# Altium integrated library Micron Memory Parallel NOR Flash.IntLib: 720 symbols (part 211 of 216)
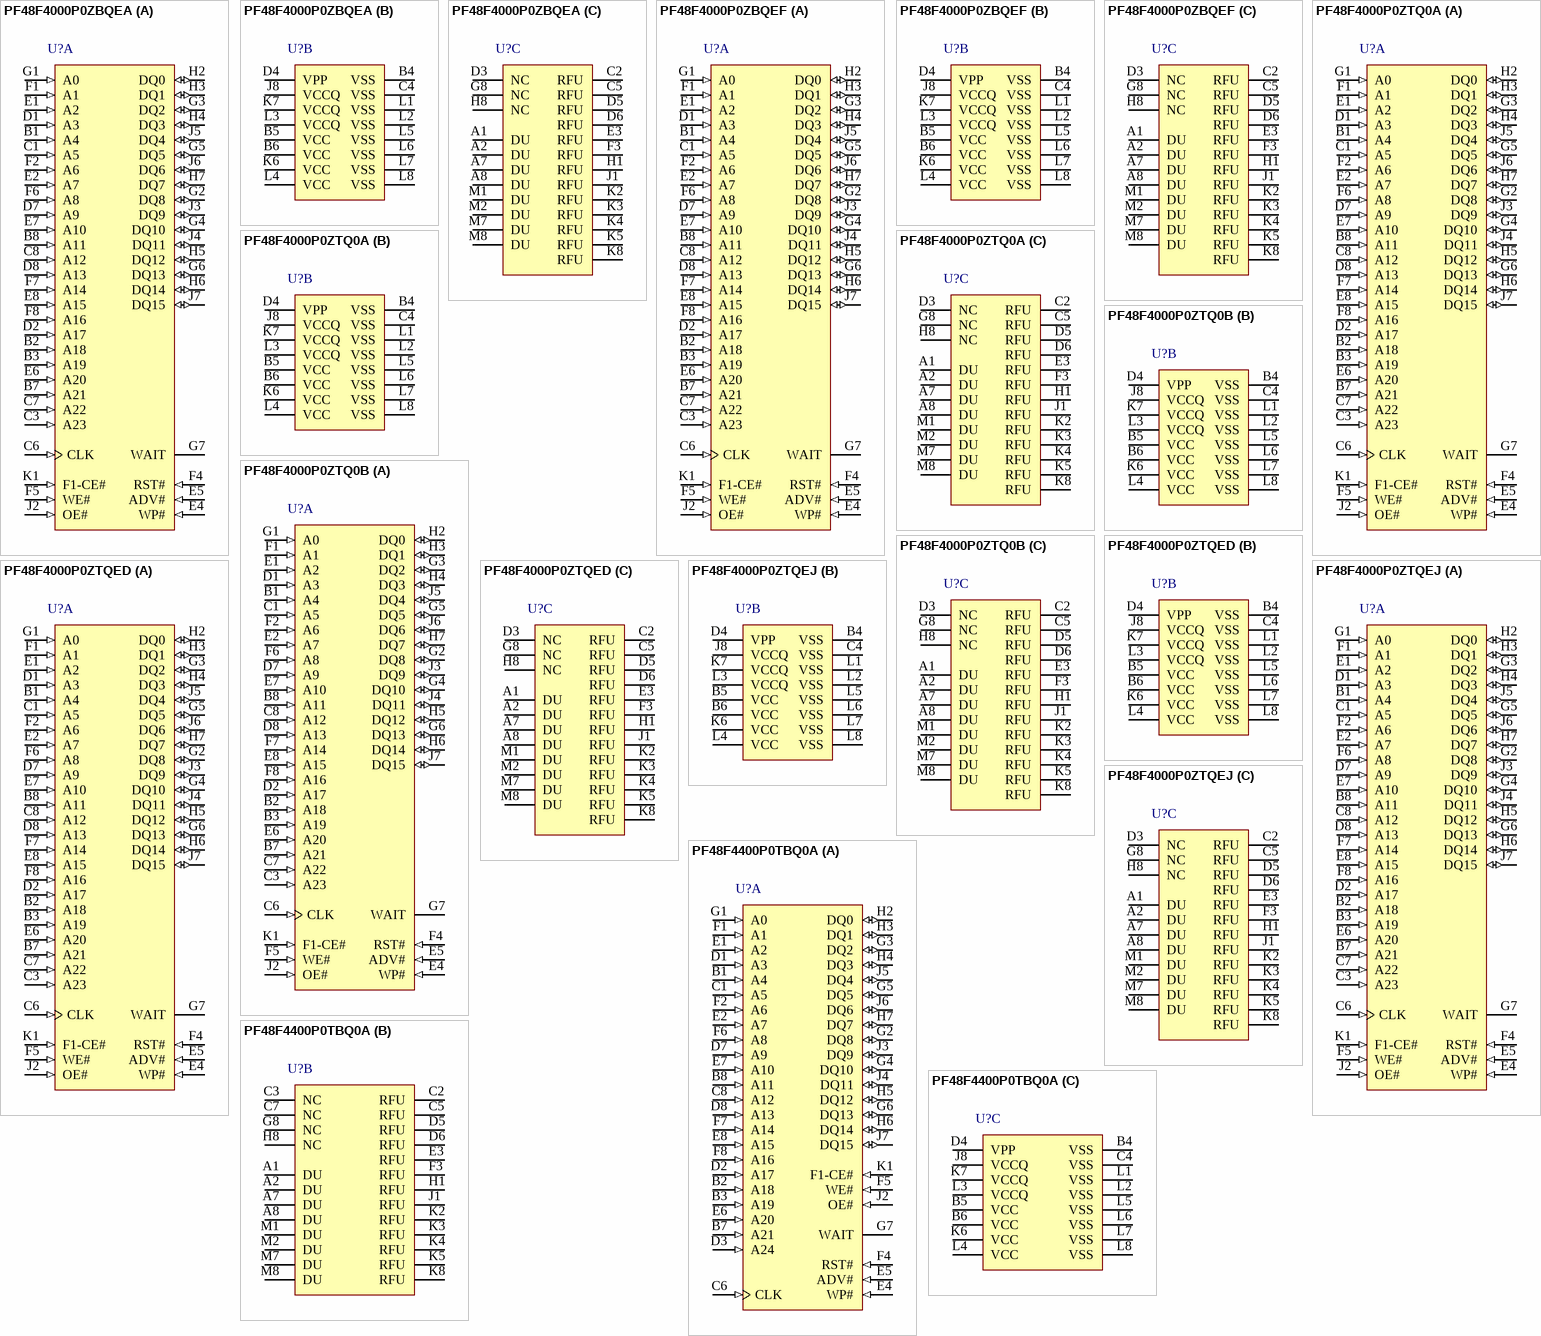
[diagram p240: symbols PF48F4000P0ZBQEA to PF48F4400P0TBQ0A]

## PF48F4000P0ZTQ0B
designator U?
256 Mb (x16) Parallel NOR Flash Memory, 85 ns, 1.7 to 2.0 V, 88-ball Quad+ BGA (PF), Tape & Reel; Part Family: P30; Manufacturer: Micron; PartNumber: PF48F4000P0ZTQ0B; Density: 256Mb; Op Temp: -40C to +85C; Speed: 85ns; Voltage: 1.7V-2.0V; DatasheetVersion: Rev. 12; PackageVersion: Rev. 12; PackageReference: MICT-PF-88-11000X8000X1000DEA; PackageDescription: 88-Ball Quad+ BGA, 11 x 8 mm, Pitch 0.8 mm; RoHS: Yes; Width: x16; Mounting Technology: Surface Mount; ComponentLink1Description: Manufacturer URL; ComponentLink1URL: http://www.micron.com/; ComponentLink2Description: Datasheet; ComponentLink2URL: http://www.micron.com/~/media/Documents/Products/Data%20Sheet/NOR%20Flash/Parallel/P33/320003_P33_65nm_MLC_256MDiscrete_512MStack_DS.pdf; ComponentLink3Description: Package Specification; ComponentLink3URL: http://www.micron.com/~/media/Documents/Products/Data%20Sheet/NOR%20Flash/Parallel/P33/320003_P33_65nm_MLC_256MDiscrete_512MStack_DS.pdf
footprint MICT-PF-88-11000X8000X1000DEA (BGA, 88-Balls, Body 11x8mm, Pitch 0.8mm)
part A pins: B1 A4 (in) "Address Input: Device Address Input. 256-Mbit: A[23:0]; 512-Mbit: A[24:0]. Note: The  virtual selection of the 256-Mbit “Top parameter” die in the dual-die 512-Mbit configuration is  accomplished by setting A24 high (VIH). (See Datasheet)", B2 A18 (in) "Address Input: Device Address Input. 256-Mbit: A[23:0]; 512-Mbit: A[24:0]. Note: The  virtual selection of the 256-Mbit “Top parameter” die in the dual-die 512-Mbit configuration is  accomplished by setting A24 high (VIH). (See Datasheet)", B3 A19 (in) "Address Input: Device Address Input. 256-Mbit: A[23:0]; 512-Mbit: A[24:0]. Note: The  virtual selection of the 256-Mbit “Top parameter” die in the dual-die 512-Mbit configuration is  accomplished by setting A24 high (VIH). (See Datasheet)", B7 A21 (in) "Address Input: Device Address Input. 256-Mbit: A[23:0]; 512-Mbit: A[24:0]. Note: The  virtual selection of the 256-Mbit “Top parameter” die in the dual-die 512-Mbit configuration is  accomplished by setting A24 high (VIH). (See Datasheet)", B8 A11 (in) "Address Input: Device Address Input. 256-Mbit: A[23:0]; 512-Mbit: A[24:0]. Note: The  virtual selection of the 256-Mbit “Top parameter” die in the dual-die 512-Mbit configuration is  accomplished by setting A24 high (VIH). (See Datasheet)", C1 A5 (in) "Address Input: Device Address Input. 256-Mbit: A[23:0]; 512-Mbit: A[24:0]. Note: The  virtual selection of the 256-Mbit “Top parameter” die in the dual-die 512-Mbit configuration is  accomplished by setting A24 high (VIH). (See Datasheet)", C3 A23 (in) "Address Input: Device Address Input. 256-Mbit: A[23:0]; 512-Mbit: A[24:0]. Note: The  virtual selection of the 256-Mbit “Top parameter” die in the dual-die 512-Mbit configuration is  accomplished by setting A24 high (VIH). (See Datasheet)", C6 CLK (in) "CLOCK: Synchronizes the device with the system’s bus frequency in synchronous-read mode.  During synchronous read operations, addresses are latched on the rising edge of ADV#, or on the  next valid CLK edge with ADV# low, (See Datasheet)", C7 A22 (in) "Address Input: Device Address Input. 256-Mbit: A[23:0]; 512-Mbit: A[24:0]. Note: The  virtual selection of the 256-Mbit “Top parameter” die in the dual-die 512-Mbit configuration is  accomplished by setting A24 high (VIH). (See Datasheet)", C8 A12 (in) "Address Input: Device Address Input. 256-Mbit: A[23:0]; 512-Mbit: A[24:0]. Note: The  virtual selection of the 256-Mbit “Top parameter” die in the dual-die 512-Mbit configuration is  accomplished by setting A24 high (VIH). (See Datasheet)", D1 A3 (in) "Address Input: Device Address Input. 256-Mbit: A[23:0]; 512-Mbit: A[24:0]. Note: The  virtual selection of the 256-Mbit “Top parameter” die in the dual-die 512-Mbit configuration is  accomplished by setting A24 high (VIH). (See Datasheet)", D2 A17 (in) "Address Input: Device Address Input. 256-Mbit: A[23:0]; 512-Mbit: A[24:0]. Note: The  virtual selection of the 256-Mbit “Top parameter” die in the dual-die 512-Mbit configuration is  accomplished by setting A24 high (VIH). (See Datasheet)", D7 A9 (in) "Address Input: Device Address Input. 256-Mbit: A[23:0]; 512-Mbit: A[24:0]. Note: The  virtual selection of the 256-Mbit “Top parameter” die in the dual-die 512-Mbit configuration is  accomplished by setting A24 high (VIH). (See Datasheet)", D8 A13 (in) "Address Input: Device Address Input. 256-Mbit: A[23:0]; 512-Mbit: A[24:0]. Note: The  virtual selection of the 256-Mbit “Top parameter” die in the dual-die 512-Mbit configuration is  accomplished by setting A24 high (VIH). (See Datasheet)", E1 A2 (in) "Address Input: Device Address Input. 256-Mbit: A[23:0]; 512-Mbit: A[24:0]. Note: The  virtual selection of the 256-Mbit “Top parameter” die in the dual-die 512-Mbit configuration is  accomplished by setting A24 high (VIH). (See Datasheet)", E2 A7 (in) "Address Input: Device Address Input. 256-Mbit: A[23:0]; 512-Mbit: A[24:0]. Note: The  virtual selection of the 256-Mbit “Top parameter” die in the dual-die 512-Mbit configuration is  accomplished by setting A24 high (VIH). (See Datasheet)", E4 WP# (in) "WRITE PROTECT: Active low input. WP# low enables the lock-down mechanism. Blocks in lockdown cannot be unlocked with the Unlock command. WP# high overrides the lock-down function  enabling blocks to be erased or programmed (See Datasheet)", E5 ADV# (in) "ADDRESS VALID: Active low input. During synchronous read operations, addresses are latched on  the rising edge of ADV#, or on the next valid CLK edge with ADV# low, whichever occurs first.  In asynchronous mode, the address (See Datasheet)", E6 A20 (in) "Address Input: Device Address Input. 256-Mbit: A[23:0]; 512-Mbit: A[24:0]. Note: The  virtual selection of the 256-Mbit “Top parameter” die in the dual-die 512-Mbit configuration is  accomplished by setting A24 high (VIH). (See Datasheet)", E7 A10 (in) "Address Input: Device Address Input. 256-Mbit: A[23:0]; 512-Mbit: A[24:0]. Note: The  virtual selection of the 256-Mbit “Top parameter” die in the dual-die 512-Mbit configuration is  accomplished by setting A24 high (VIH). (See Datasheet)", E8 A15 (in) "Address Input: Device Address Input. 256-Mbit: A[23:0]; 512-Mbit: A[24:0]. Note: The  virtual selection of the 256-Mbit “Top parameter” die in the dual-die 512-Mbit configuration is  accomplished by setting A24 high (VIH). (See Datasheet)", F1 A1 (in) "Address Input: Device Address Input. 256-Mbit: A[23:0]; 512-Mbit: A[24:0]. Note: The  virtual selection of the 256-Mbit “Top parameter” die in the dual-die 512-Mbit configuration is  accomplished by setting A24 high (VIH). (See Datasheet)", F2 A6 (in) "Address Input: Device Address Input. 256-Mbit: A[23:0]; 512-Mbit: A[24:0]. Note: The  virtual selection of the 256-Mbit “Top parameter” die in the dual-die 512-Mbit configuration is  accomplished by setting A24 high (VIH). (See Datasheet)", F4 RST# (in) "RESET: Active low input. RST# resets internal automation and inhibits write operations. This  provides data protection during power transitions. RST# high enables normal operation. Exit from  reset places the device in (See Datasheet)", F5 WE# (in) "WRITE ENABLE: Active low input. WE# controls writes to the device. Address and data are latched  on the rising edge of WE# or CE#, whichever occurs first.", F6 A8 (in) "Address Input: Device Address Input. 256-Mbit: A[23:0]; 512-Mbit: A[24:0]. Note: The  virtual selection of the 256-Mbit “Top parameter” die in the dual-die 512-Mbit configuration is  accomplished by setting A24 high (VIH). (See Datasheet)", F7 A14 (in) "Address Input: Device Address Input. 256-Mbit: A[23:0]; 512-Mbit: A[24:0]. Note: The  virtual selection of the 256-Mbit “Top parameter” die in the dual-die 512-Mbit configuration is  accomplished by setting A24 high (VIH). (See Datasheet)", F8 A16 (in) "Address Input: Device Address Input. 256-Mbit: A[23:0]; 512-Mbit: A[24:0]. Note: The  virtual selection of the 256-Mbit “Top parameter” die in the dual-die 512-Mbit configuration is  accomplished by setting A24 high (VIH). (See Datasheet)", G1 A0 (in) "Address Input: Device Address Input. 256-Mbit: A[23:0]; 512-Mbit: A[24:0]. Note: The  virtual selection of the 256-Mbit “Top parameter” die in the dual-die 512-Mbit configuration is  accomplished by setting A24 high (VIH). (See Datasheet)", G2 DQ8 (io) "DATA INPUT/OUTPUT: Inputs data and commands during write cycles; outputs data during  memory, Status Register, Protection Register, and Read Configuration Register reads. Data balls float  when the CE# or OE# are deasserted. (See Datasheet)", G3 DQ2 (io) "DATA INPUT/Output: Input data and commands during write cycles; Output data during  memory, Status Register, Protection Register, and Read Configuration Register reads. Data balls float  when the CE# or OE# are deasserted. (See Datasheet)", G4 DQ10 (io) "DATA INPUT/OUTPUT: Inputs data and commands during write cycles; outputs data during  memory, Status Register, Protection Register, and Read Configuration Register reads. Data balls float  when the CE# or OE# are deasserted. (See Datasheet)", G5 DQ5 (io) "DATA INPUT/OUTPUT: Inputs data and commands during write cycles; outputs data during  memory, Status Register, Protection Register, and Read Configuration Register reads. Data balls float  when the CE# or OE# are deasserted. (See Datasheet)", G6 DQ13 (io) "DATA INPUT/OUTPUT: Inputs data and commands during write cycles; outputs data during  memory, Status Register, Protection Register, and Read Configuration Register reads. Data balls float  when the CE# or OE# are deasserted. (See Datasheet)", G7 WAIT (hiz) "WAIT: Indicates data valid in synchronous array or non-array burst reads. Read Configuration  Register bit 10 (RCR.10, WT) determines its polarity when asserted. WAIT’s active output is VOL  or  VOH when CE# and OE# are VIL .(See Datasheet)", H2 DQ0 (io) "DATA INPUT/Output: Input data and commands during write cycles; Output data during  memory, Status Register, Protection Register, and Read Configuration Register reads. Data balls float  when the CE# or OE# are deasserted. (See Datasheet)", H3 DQ1 (io) "DATA INPUT/Output: Inputs data and commands during write cycles; Output data during  memory, Status Register, Protection Register, and Read Configuration Register reads. Data balls float  when the CE# or OE# are deasserted. (See Datasheet)", H4 DQ3 (io) "DATA INPUT/OUTPUT: input data and commands during write cycles; outputs data during  memory, Status Register, Protection Register, and Read Configuration Register reads. Data balls float  when the CE# or OE# are deasserted. (See Datasheet)", H5 DQ12 (io) "DATA INPUT/OUTPUT: Inputs data and commands during write cycles; outputs data during  memory, Status Register, Protection Register, and Read Configuration Register reads. Data balls float  when the CE# or OE# are deasserted. (See Datasheet)", H6 DQ14 (io) "DATA INPUT/OUTPUT: Inputs data and commands during write cycles; outputs data during  memory, Status Register, Protection Register, and Read Configuration Register reads. Data balls float  when the CE# or OE# are deasserted. (See Datasheet)", H7 DQ7 (io) "DATA INPUT/OUTPUT: Inputs data and commands during write cycles; outputs data during  memory, Status Register, Protection Register, and Read Configuration Register reads. Data balls float  when the CE# or OE# are deasserted. (See Datasheet)", J2 OE# (in) "OUTPUT ENABLE: Active low input. OE# low enables the device’s output data buffers during read  cycles. OE# high places the data outputs and WAIT in High-Z.", J3 DQ9 (io) "DATA INPUT/OUTPUT: Inputs data and commands during write cycles; outputs data during  memory, Status Register, Protection Register, and Read Configuration Register reads. Data balls float  when the CE# or OE# are deasserted. (See Datasheet)", J4 DQ11 (io) "DATA INPUT/OUTPUTS: Inputs data and commands during write cycles; outputs data during  memory, Status Register, Protection Register, and Read Configuration Register reads. Data balls float  when the CE# or OE# are deasserted.(See Datasheet)", J5 DQ4 (io) "DATA INPUT/OUTPUT: INPUT data and commands during write cycles; OUTPUT data during  memory, Status Register, Protection Register, and Read Configuration Register reads. Data balls float  when the CE# or OE# are deasserted. (See Datasheet)", J6 DQ6 (io) "DATA INPUT/OUTPUT: Inputs data and commands during write cycles; outputs data during  memory, Status Register, Protection Register, and Read Configuration Register reads. Data balls float  when the CE# or OE# are deasserted. (See Datasheet)", J7 DQ15 (io) "DATA INPUT/OUTPUT: Inputs data and commands during write cycles; outputs data during  memory, Status Register, Protection Register, and Read Configuration Register reads. Data balls float  when the CE# or OE# are deasserted. (See Datasheet)", K1 F1-CE# (in) "Flash CHIP ENABLE: Active low input. CE# low selects the associated flash memory die. When  asserted, flash internal control logic, input buffers, decoders, and sense amplifiers are active. When  deasserted, the associated (See Datasheet)"
part B pins: B4 VSS (power) "GROUND: Connect to system ground. Do not float any VSS connection.", B5 VCC (power) "DEVICE CORE POWER SUPPLY: Core (logic) source voltage. Writes to the flash array are inhibited  when VCC =< VLKO. Operations at invalid VCC voltages should not be attempted.", B6 VCC (power) "DEVICE CORE POWER SUPPLY: Core (logic) source voltage. Writes to the flash array are inhibited  when VCC =< VLKO. Operations at invalid VCC voltages should not be attempted.", C4 VSS (power) "GROUND: Connect to system ground. Do not float any VSS connection.", D4 VPP (power) "ERASE AND PROGRAM POWER: A valid voltage on this pin allows erasing or programming.  Memory contents cannot be altered when VPP =< VPPLK. Block erase and program at invalid VPP voltages should not be attempted. Set VPP  = (See Datasheet)", J8 VCCQ (power) "OUTPUT POWER SUPPLY: Output-driver source voltage.", K6 VCC (power) "DEVICE CORE POWER SUPPLY: Core (logic) source voltage. Writes to the flash array are inhibited  when VCC =< VLKO. Operations at invalid VCC voltages should not be attempted.", K7 VCCQ (power) "OUTPUT POWER SUPPLY: Output-driver source voltage.", L1 VSS (power) "GROUND: Connect to system ground. Do not float any VSS connection.", L2 VSS (power) "GROUND: Connect to system ground. Do not float any VSS connection.", L3 VCCQ (power) "OUTPUT POWER SUPPLY: Output-driver source voltage.", L4 VCC (power) "DEVICE CORE POWER SUPPLY: Core (logic) source voltage. Writes to the flash array are inhibited  when VCC =< VLKO. Operations at invalid VCC voltages should not be attempted.", L5 VSS (power) "GROUND: Connect to system ground. Do not float any VSS connection.", L6 VSS (power) "GROUND: Connect to system ground. Do not float any VSS connection.", L7 VSS (power) "GROUND: Connect to system ground. Do not float any VSS connection.", L8 VSS (power) "GROUND: Connect to system ground. Do not float any VSS connection."
part C pins: A1 DU "DO NOT USE: Do not connect to any other signal, or power supply; must be left floating.", A2 DU "DO NOT USE: Do not connect to any other signal, or power supply; must be left floating.", A7 DU "DO NOT USE: Do not connect to any other signal, or power supply; must be left floating.", A8 DU "DO NOT USE: Do not connect to any other signal, or power supply; must be left floating.", C2 RFU "RESERVED FOR FUTURE USE: Reserved by Numonyx for future device functionality and  enhancement. These should be treated in the same way as a Do Not Use (DU) signal.", C5 RFU "RESERVED FOR FUTURE USE: Reserved by Numonyx for future device functionality and  enhancement. These should be treated in the same way as a Do Not Use (DU) signal.", D3 NC "NO CONNECT: No internal connection; can be driven or floated.", D5 RFU "RESERVED FOR FUTURE USE: Reserved by Numonyx for future device functionality and  enhancement. These should be treated in the same way as a Do Not Use (DU) signal.", D6 RFU "RESERVED FOR FUTURE USE: Reserved by Numonyx for future device functionality and  enhancement. These should be treated in the same way as a Do Not Use (DU) signal.", E3 RFU "RESERVED FOR FUTURE USE: Reserved by Numonyx for future device functionality and  enhancement. These should be treated in the same way as a Do Not Use (DU) signal.", F3 RFU "RESERVED FOR FUTURE USE: Reserved by Numonyx for future device functionality and  enhancement. These should be treated in the same way as a Do Not Use (DU) signal.", G8 NC "NO CONNECT: No internal connection; can be driven or floated.", H1 RFU "RESERVED FOR FUTURE USE: Reserved by Numonyx for future device functionality and  enhancement. These should be treated in the same way as a Do Not Use (DU) signal.", H8 NC "NO CONNECT: No internal connection; can be driven or floated.", J1 RFU "RESERVED FOR FUTURE USE: Reserved by Numonyx for future device functionality and  enhancement. These should be treated in the same way as a Do Not Use (DU) signal.", K2 RFU "RESERVED FOR FUTURE USE: Reserved by Numonyx for future device functionality and  enhancement. These should be treated in the same way as a Do Not Use (DU) signal.", K3 RFU "RESERVED FOR FUTURE USE: Reserved by Numonyx for future device functionality and  enhancement. These should be treated in the same way as a Do Not Use (DU) signal.", K4 RFU "RESERVED FOR FUTURE USE: Reserved by Numonyx for future device functionality and  enhancement. These should be treated in the same way as a Do Not Use (DU) signal.", K5 RFU "RESERVED FOR FUTURE USE: Reserved by Numonyx for future device functionality and  enhancement. These should be treated in the same way as a Do Not Use (DU) signal.", K8 RFU "RESERVED FOR FUTURE USE: Reserved by Numonyx for future device functionality and  enhancement. These should be treated in the same way as a Do Not Use (DU) signal.", M1 DU "DO NOT USE: Do not connect to any other signal, or power supply; must be left floating.", M2 DU "DO NOT USE: Do not connect to any other signal, or power supply; must be left floating.", M7 DU "DO NOT USE: Do not connect to any other signal, or power supply; must be left floating.", M8 DU "DO NOT USE: Do not connect to any other signal, or power supply; must be left floating."

## PF48F4000P0ZTQED
designator U?
256 Mb (x16) Parallel NOR Flash Memory, 100 ns, 1.7 to 2.0 V, 88-ball Quad+ BGA (PF), Tray; Part Family: P30; Manufacturer: Micron; PartNumber: PF48F4000P0ZTQED; Density: 256Mb; Op Temp: -40C to +85C; Speed: 100ns; Voltage: 1.7V-2.0V; DatasheetVersion: Rev. 11; PackageVersion: Rev. 12; PackageReference: MICT-PF-88-11000X8000X1000DEA; PackageDescription: 88-Ball Quad+ BGA, 11 x 8 mm, Pitch 0.8 mm; RoHS: Yes; Width: x16; Mounting Technology: Surface Mount; ComponentLink1Description: Manufacturer URL; ComponentLink1URL: http://www.micron.com/; ComponentLink2Description: Datasheet; ComponentLink2URL: http://www.micron.com/~/media/Documents/Products/Data%20Sheet/NOR%20Flash/Parallel/P30/320002_P30_65nm_MLC_256MDiscrete_512MStack_DS.pdf; ComponentLink3Description: Package Specification; ComponentLink3URL: http://www.micron.com/~/media/Documents/Products/Data%20Sheet/NOR%20Flash/Parallel/P33/320003_P33_65nm_MLC_256MDiscrete_512MStack_DS.pdf
footprint MICT-PF-88-11000X8000X1000DEA (BGA, 88-Balls, Body 11x8mm, Pitch 0.8mm)
part A pins: B1 A4 (in) "Address Input: Device Address Input. 256-Mbit: A[23:0]; 512-Mbit: A[24:0]. Note: The  virtual selection of the 256-Mbit “Top parameter” die in the dual-die 512-Mbit configuration is  accomplished by setting A24 high (VIH). (See Datasheet)", B2 A18 (in) "Address Input: Device Address Input. 256-Mbit: A[23:0]; 512-Mbit: A[24:0]. Note: The  virtual selection of the 256-Mbit “Top parameter” die in the dual-die 512-Mbit configuration is  accomplished by setting A24 high (VIH). (See Datasheet)", B3 A19 (in) "Address Input: Device Address Input. 256-Mbit: A[23:0]; 512-Mbit: A[24:0]. Note: The  virtual selection of the 256-Mbit “Top parameter” die in the dual-die 512-Mbit configuration is  accomplished by setting A24 high (VIH). (See Datasheet)", B7 A21 (in) "Address Input: Device Address Input. 256-Mbit: A[23:0]; 512-Mbit: A[24:0]. Note: The  virtual selection of the 256-Mbit “Top parameter” die in the dual-die 512-Mbit configuration is  accomplished by setting A24 high (VIH). (See Datasheet)", B8 A11 (in) "Address Input: Device Address Input. 256-Mbit: A[23:0]; 512-Mbit: A[24:0]. Note: The  virtual selection of the 256-Mbit “Top parameter” die in the dual-die 512-Mbit configuration is  accomplished by setting A24 high (VIH). (See Datasheet)", C1 A5 (in) "Address Input: Device Address Input. 256-Mbit: A[23:0]; 512-Mbit: A[24:0]. Note: The  virtual selection of the 256-Mbit “Top parameter” die in the dual-die 512-Mbit configuration is  accomplished by setting A24 high (VIH). (See Datasheet)", C3 A23 (in) "Address Input: Device Address Input. 256-Mbit: A[23:0]; 512-Mbit: A[24:0]. Note: The  virtual selection of the 256-Mbit “Top parameter” die in the dual-die 512-Mbit configuration is  accomplished by setting A24 high (VIH). (See Datasheet)", C6 CLK (in) "CLOCK: Synchronizes the device with the system’s bus frequency in synchronous-read mode.  During synchronous read operations, addresses are latched on the rising edge of ADV#, or on the  next valid CLK edge with ADV# low, (See Datasheet)", C7 A22 (in) "Address Input: Device Address Input. 256-Mbit: A[23:0]; 512-Mbit: A[24:0]. Note: The  virtual selection of the 256-Mbit “Top parameter” die in the dual-die 512-Mbit configuration is  accomplished by setting A24 high (VIH). (See Datasheet)", C8 A12 (in) "Address Input: Device Address Input. 256-Mbit: A[23:0]; 512-Mbit: A[24:0]. Note: The  virtual selection of the 256-Mbit “Top parameter” die in the dual-die 512-Mbit configuration is  accomplished by setting A24 high (VIH). (See Datasheet)", D1 A3 (in) "Address Input: Device Address Input. 256-Mbit: A[23:0]; 512-Mbit: A[24:0]. Note: The  virtual selection of the 256-Mbit “Top parameter” die in the dual-die 512-Mbit configuration is  accomplished by setting A24 high (VIH). (See Datasheet)", D2 A17 (in) "Address Input: Device Address Input. 256-Mbit: A[23:0]; 512-Mbit: A[24:0]. Note: The  virtual selection of the 256-Mbit “Top parameter” die in the dual-die 512-Mbit configuration is  accomplished by setting A24 high (VIH). (See Datasheet)", D7 A9 (in) "Address Input: Device Address Input. 256-Mbit: A[23:0]; 512-Mbit: A[24:0]. Note: The  virtual selection of the 256-Mbit “Top parameter” die in the dual-die 512-Mbit configuration is  accomplished by setting A24 high (VIH). (See Datasheet)", D8 A13 (in) "Address Input: Device Address Input. 256-Mbit: A[23:0]; 512-Mbit: A[24:0]. Note: The  virtual selection of the 256-Mbit “Top parameter” die in the dual-die 512-Mbit configuration is  accomplished by setting A24 high (VIH). (See Datasheet)", E1 A2 (in) "Address Input: Device Address Input. 256-Mbit: A[23:0]; 512-Mbit: A[24:0]. Note: The  virtual selection of the 256-Mbit “Top parameter” die in the dual-die 512-Mbit configuration is  accomplished by setting A24 high (VIH). (See Datasheet)", E2 A7 (in) "Address Input: Device Address Input. 256-Mbit: A[23:0]; 512-Mbit: A[24:0]. Note: The  virtual selection of the 256-Mbit “Top parameter” die in the dual-die 512-Mbit configuration is  accomplished by setting A24 high (VIH). (See Datasheet)", E4 WP# (in) "WRITE PROTECT: Active low input. WP# low enables the lock-down mechanism. Blocks in lockdown cannot be unlocked with the Unlock command. WP# high overrides the lock-down function  enabling blocks to be erased or programmed (See Datasheet)", E5 ADV# (in) "ADDRESS VALID: Active low input. During synchronous read operations, addresses are latched on  the rising edge of ADV#, or on the next valid CLK edge with ADV# low, whichever occurs first.  In asynchronous mode, the address (See Datasheet)", E6 A20 (in) "Address Input: Device Address Input. 256-Mbit: A[23:0]; 512-Mbit: A[24:0]. Note: The  virtual selection of the 256-Mbit “Top parameter” die in the dual-die 512-Mbit configuration is  accomplished by setting A24 high (VIH). (See Datasheet)", E7 A10 (in) "Address Input: Device Address Input. 256-Mbit: A[23:0]; 512-Mbit: A[24:0]. Note: The  virtual selection of the 256-Mbit “Top parameter” die in the dual-die 512-Mbit configuration is  accomplished by setting A24 high (VIH). (See Datasheet)", E8 A15 (in) "Address Input: Device Address Input. 256-Mbit: A[23:0]; 512-Mbit: A[24:0]. Note: The  virtual selection of the 256-Mbit “Top parameter” die in the dual-die 512-Mbit configuration is  accomplished by setting A24 high (VIH). (See Datasheet)", F1 A1 (in) "Address Input: Device Address Input. 256-Mbit: A[23:0]; 512-Mbit: A[24:0]. Note: The  virtual selection of the 256-Mbit “Top parameter” die in the dual-die 512-Mbit configuration is  accomplished by setting A24 high (VIH). (See Datasheet)", F2 A6 (in) "Address Input: Device Address Input. 256-Mbit: A[23:0]; 512-Mbit: A[24:0]. Note: The  virtual selection of the 256-Mbit “Top parameter” die in the dual-die 512-Mbit configuration is  accomplished by setting A24 high (VIH). (See Datasheet)", F4 RST# (in) "RESET: Active low input. RST# resets internal automation and inhibits write operations. This  provides data protection during power transitions. RST# high enables normal operation. Exit from  reset places the device in (See Datasheet)", F5 WE# (in) "WRITE ENABLE: Active low input. WE# controls writes to the device. Address and data are latched  on the rising edge of WE# or CE#, whichever occurs first.", F6 A8 (in) "Address Input: Device Address Input. 256-Mbit: A[23:0]; 512-Mbit: A[24:0]. Note: The  virtual selection of the 256-Mbit “Top parameter” die in the dual-die 512-Mbit configuration is  accomplished by setting A24 high (VIH). (See Datasheet)", F7 A14 (in) "Address Input: Device Address Input. 256-Mbit: A[23:0]; 512-Mbit: A[24:0]. Note: The  virtual selection of the 256-Mbit “Top parameter” die in the dual-die 512-Mbit configuration is  accomplished by setting A24 high (VIH). (See Datasheet)", F8 A16 (in) "Address Input: Device Address Input. 256-Mbit: A[23:0]; 512-Mbit: A[24:0]. Note: The  virtual selection of the 256-Mbit “Top parameter” die in the dual-die 512-Mbit configuration is  accomplished by setting A24 high (VIH). (See Datasheet)", G1 A0 (in) "Address Input: Device Address Input. 256-Mbit: A[23:0]; 512-Mbit: A[24:0]. Note: The  virtual selection of the 256-Mbit “Top parameter” die in the dual-die 512-Mbit configuration is  accomplished by setting A24 high (VIH). (See Datasheet)", G2 DQ8 (io) "DATA INPUT/OUTPUT: Inputs data and commands during write cycles; outputs data during  memory, Status Register, Protection Register, and Read Configuration Register reads. Data balls float  when the CE# or OE# are deasserted. (See Datasheet)", G3 DQ2 (io) "DATA INPUT/Output: Input data and commands during write cycles; Output data during  memory, Status Register, Protection Register, and Read Configuration Register reads. Data balls float  when the CE# or OE# are deasserted. (See Datasheet)", G4 DQ10 (io) "DATA INPUT/OUTPUT: Inputs data and commands during write cycles; outputs data during  memory, Status Register, Protection Register, and Read Configuration Register reads. Data balls float  when the CE# or OE# are deasserted. (See Datasheet)", G5 DQ5 (io) "DATA INPUT/OUTPUT: Inputs data and commands during write cycles; outputs data during  memory, Status Register, Protection Register, and Read Configuration Register reads. Data balls float  when the CE# or OE# are deasserted. (See Datasheet)", G6 DQ13 (io) "DATA INPUT/OUTPUT: Inputs data and commands during write cycles; outputs data during  memory, Status Register, Protection Register, and Read Configuration Register reads. Data balls float  when the CE# or OE# are deasserted. (See Datasheet)", G7 WAIT (hiz) "WAIT: Indicates data valid in synchronous array or non-array burst reads. Read Configuration  Register bit 10 (RCR.10, WT) determines its polarity when asserted. WAIT’s active output is VOL  or  VOH when CE# and OE# are VIL .(See Datasheet)", H2 DQ0 (io) "DATA INPUT/Output: Input data and commands during write cycles; Output data during  memory, Status Register, Protection Register, and Read Configuration Register reads. Data balls float  when the CE# or OE# are deasserted. (See Datasheet)", H3 DQ1 (io) "DATA INPUT/Output: Inputs data and commands during write cycles; Output data during  memory, Status Register, Protection Register, and Read Configuration Register reads. Data balls float  when the CE# or OE# are deasserted. (See Datasheet)", H4 DQ3 (io) "DATA INPUT/OUTPUT: input data and commands during write cycles; outputs data during  memory, Status Register, Protection Register, and Read Configuration Register reads. Data balls float  when the CE# or OE# are deasserted. (See Datasheet)", H5 DQ12 (io) "DATA INPUT/OUTPUT: Inputs data and commands during write cycles; outputs data during  memory, Status Register, Protection Register, and Read Configuration Register reads. Data balls float  when the CE# or OE# are deasserted. (See Datasheet)", H6 DQ14 (io) "DATA INPUT/OUTPUT: Inputs data and commands during write cycles; outputs data during  memory, Status Register, Protection Register, and Read Configuration Register reads. Data balls float  when the CE# or OE# are deasserted. (See Datasheet)", H7 DQ7 (io) "DATA INPUT/OUTPUT: Inputs data and commands during write cycles; outputs data during  memory, Status Register, Protection Register, and Read Configuration Register reads. Data balls float  when the CE# or OE# are deasserted. (See Datasheet)", J2 OE# (in) "OUTPUT ENABLE: Active low input. OE# low enables the device’s output data buffers during read  cycles. OE# high places the data outputs and WAIT in High-Z.", J3 DQ9 (io) "DATA INPUT/OUTPUT: Inputs data and commands during write cycles; outputs data during  memory, Status Register, Protection Register, and Read Configuration Register reads. Data balls float  when the CE# or OE# are deasserted. (See Datasheet)", J4 DQ11 (io) "DATA INPUT/OUTPUTS: Inputs data and commands during write cycles; outputs data during  memory, Status Register, Protection Register, and Read Configuration Register reads. Data balls float  when the CE# or OE# are deasserted.(See Datasheet)", J5 DQ4 (io) "DATA INPUT/OUTPUT: INPUT data and commands during write cycles; OUTPUT data during  memory, Status Register, Protection Register, and Read Configuration Register reads. Data balls float  when the CE# or OE# are deasserted. (See Datasheet)", J6 DQ6 (io) "DATA INPUT/OUTPUT: Inputs data and commands during write cycles; outputs data during  memory, Status Register, Protection Register, and Read Configuration Register reads. Data balls float  when the CE# or OE# are deasserted. (See Datasheet)", J7 DQ15 (io) "DATA INPUT/OUTPUT: Inputs data and commands during write cycles; outputs data during  memory, Status Register, Protection Register, and Read Configuration Register reads. Data balls float  when the CE# or OE# are deasserted. (See Datasheet)", K1 F1-CE# (in) "Flash CHIP ENABLE: Active low input. CE# low selects the associated flash memory die. When  asserted, flash internal control logic, input buffers, decoders, and sense amplifiers are active. When  deasserted, the associated (See Datasheet)"
part B pins: B4 VSS (power) "GROUND: Connect to system ground. Do not float any VSS connection.", B5 VCC (power) "DEVICE CORE POWER SUPPLY: Core (logic) source voltage. Writes to the flash array are inhibited  when VCC =< VLKO. Operations at invalid VCC voltages should not be attempted.", B6 VCC (power) "DEVICE CORE POWER SUPPLY: Core (logic) source voltage. Writes to the flash array are inhibited  when VCC =< VLKO. Operations at invalid VCC voltages should not be attempted.", C4 VSS (power) "GROUND: Connect to system ground. Do not float any VSS connection.", D4 VPP (power) "ERASE AND PROGRAM POWER: A valid voltage on this pin allows erasing or programming.  Memory contents cannot be altered when VPP =< VPPLK. Block erase and program at invalid VPP voltages should not be attempted. Set VPP  = (See Datasheet)", J8 VCCQ (power) "OUTPUT POWER SUPPLY: Output-driver source voltage.", K6 VCC (power) "DEVICE CORE POWER SUPPLY: Core (logic) source voltage. Writes to the flash array are inhibited  when VCC =< VLKO. Operations at invalid VCC voltages should not be attempted.", K7 VCCQ (power) "OUTPUT POWER SUPPLY: Output-driver source voltage.", L1 VSS (power) "GROUND: Connect to system ground. Do not float any VSS connection.", L2 VSS (power) "GROUND: Connect to system ground. Do not float any VSS connection.", L3 VCCQ (power) "OUTPUT POWER SUPPLY: Output-driver source voltage.", L4 VCC (power) "DEVICE CORE POWER SUPPLY: Core (logic) source voltage. Writes to the flash array are inhibited  when VCC =< VLKO. Operations at invalid VCC voltages should not be attempted.", L5 VSS (power) "GROUND: Connect to system ground. Do not float any VSS connection.", L6 VSS (power) "GROUND: Connect to system ground. Do not float any VSS connection.", L7 VSS (power) "GROUND: Connect to system ground. Do not float any VSS connection.", L8 VSS (power) "GROUND: Connect to system ground. Do not float any VSS connection."
part C pins: A1 DU "DO NOT USE: Do not connect to any other signal, or power supply; must be left floating.", A2 DU "DO NOT USE: Do not connect to any other signal, or power supply; must be left floating.", A7 DU "DO NOT USE: Do not connect to any other signal, or power supply; must be left floating.", A8 DU "DO NOT USE: Do not connect to any other signal, or power supply; must be left floating.", C2 RFU "RESERVED FOR FUTURE USE: Reserved by Numonyx for future device functionality and  enhancement. These should be treated in the same way as a Do Not Use (DU) signal.", C5 RFU "RESERVED FOR FUTURE USE: Reserved by Numonyx for future device functionality and  enhancement. These should be treated in the same way as a Do Not Use (DU) signal.", D3 NC "NO CONNECT: No internal connection; can be driven or floated.", D5 RFU "RESERVED FOR FUTURE USE: Reserved by Numonyx for future device functionality and  enhancement. These should be treated in the same way as a Do Not Use (DU) signal.", D6 RFU "RESERVED FOR FUTURE USE: Reserved by Numonyx for future device functionality and  enhancement. These should be treated in the same way as a Do Not Use (DU) signal.", E3 RFU "RESERVED FOR FUTURE USE: Reserved by Numonyx for future device functionality and  enhancement. These should be treated in the same way as a Do Not Use (DU) signal.", F3 RFU "RESERVED FOR FUTURE USE: Reserved by Numonyx for future device functionality and  enhancement. These should be treated in the same way as a Do Not Use (DU) signal.", G8 NC "NO CONNECT: No internal connection; can be driven or floated.", H1 RFU "RESERVED FOR FUTURE USE: Reserved by Numonyx for future device functionality and  enhancement. These should be treated in the same way as a Do Not Use (DU) signal.", H8 NC "NO CONNECT: No internal connection; can be driven or floated.", J1 RFU "RESERVED FOR FUTURE USE: Reserved by Numonyx for future device functionality and  enhancement. These should be treated in the same way as a Do Not Use (DU) signal.", K2 RFU "RESERVED FOR FUTURE USE: Reserved by Numonyx for future device functionality and  enhancement. These should be treated in the same way as a Do Not Use (DU) signal.", K3 RFU "RESERVED FOR FUTURE USE: Reserved by Numonyx for future device functionality and  enhancement. These should be treated in the same way as a Do Not Use (DU) signal.", K4 RFU "RESERVED FOR FUTURE USE: Reserved by Numonyx for future device functionality and  enhancement. These should be treated in the same way as a Do Not Use (DU) signal.", K5 RFU "RESERVED FOR FUTURE USE: Reserved by Numonyx for future device functionality and  enhancement. These should be treated in the same way as a Do Not Use (DU) signal.", K8 RFU "RESERVED FOR FUTURE USE: Reserved by Numonyx for future device functionality and  enhancement. These should be treated in the same way as a Do Not Use (DU) signal.", M1 DU "DO NOT USE: Do not connect to any other signal, or power supply; must be left floating.", M2 DU "DO NOT USE: Do not connect to any other signal, or power supply; must be left floating.", M7 DU "DO NOT USE: Do not connect to any other signal, or power supply; must be left floating.", M8 DU "DO NOT USE: Do not connect to any other signal, or power supply; must be left floating."